# Altium footprint library PcbLib1.PcbLib: 32 footprints (part 1 of 2)
Each footprint in its own frame and in the unit in brackets; x right, y up, seen from the top. Pads: shape width x height; smd on the part's side, far side on the other; paste and mask are expansions set on the pad; w line width, h text height; cw(c..) or ccw(c..) is an arc to the next point about the centre after c.
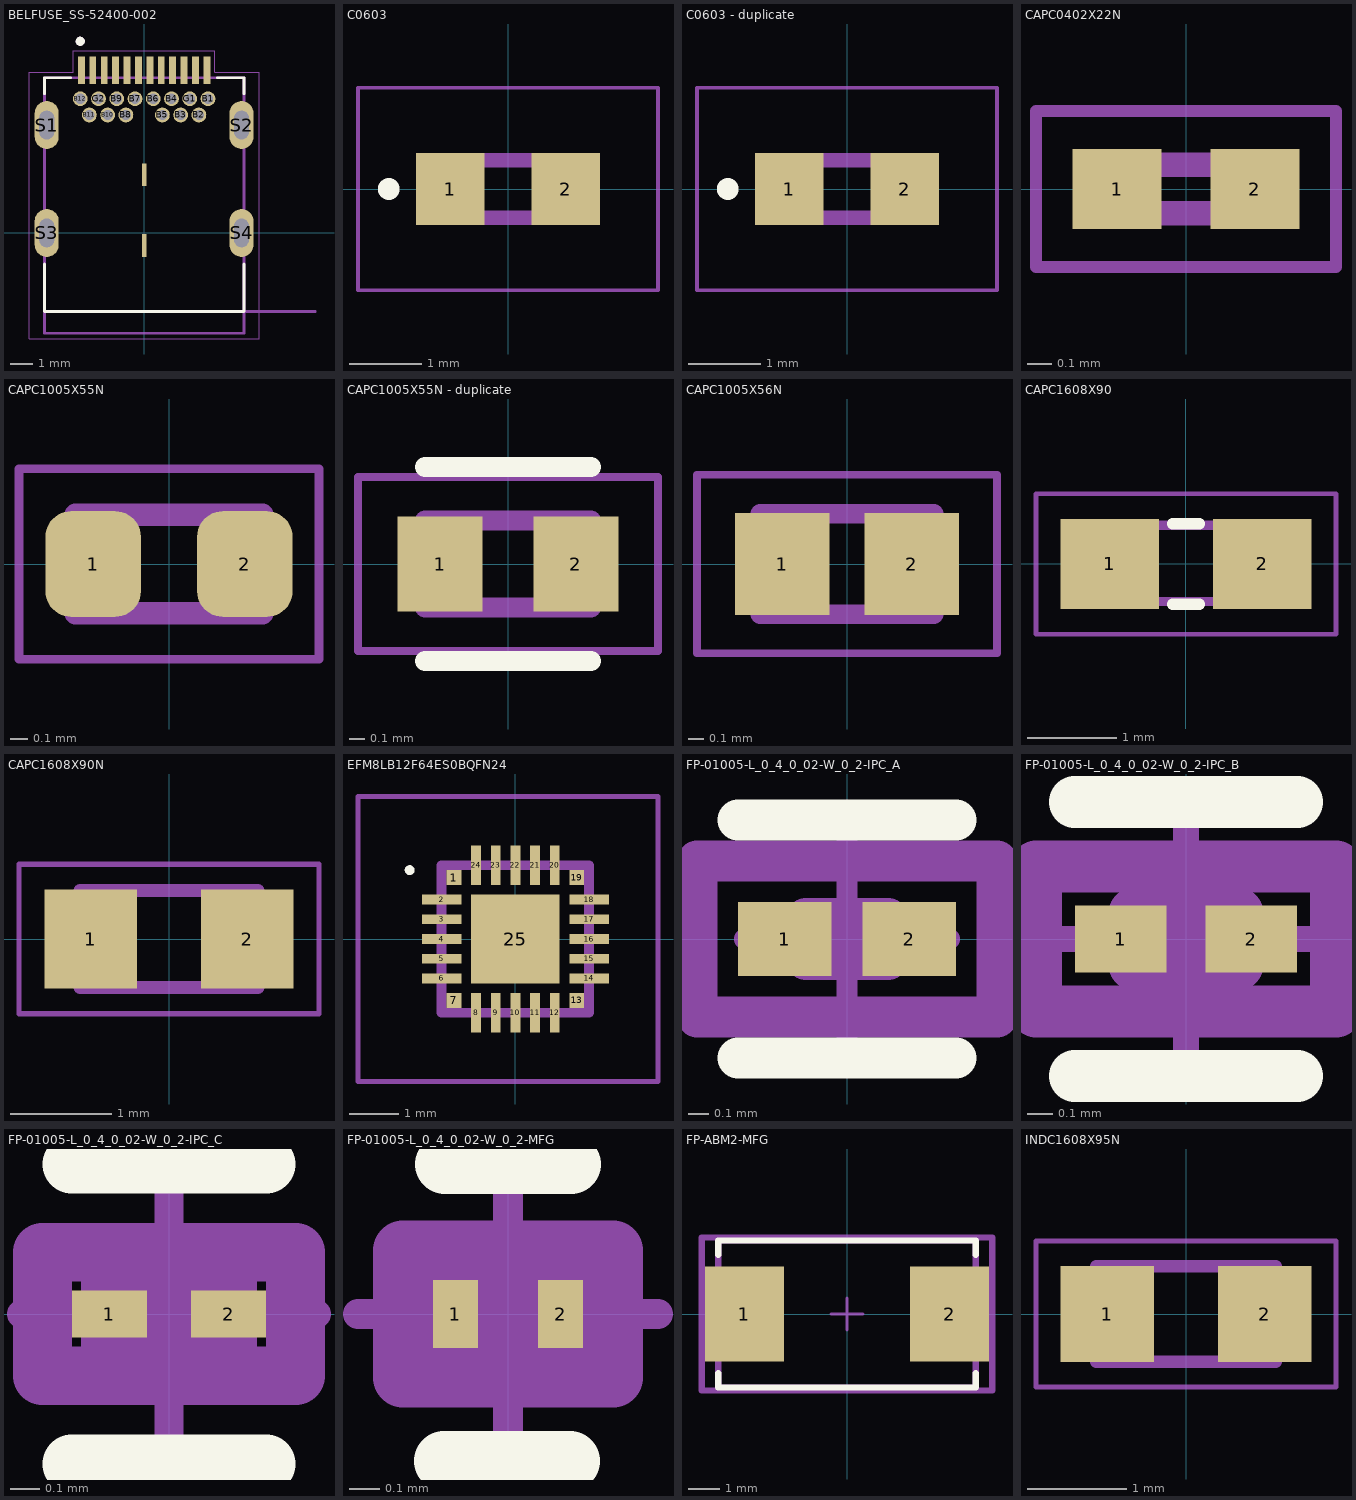
[diagram p0: the footprints below, top view; thin cyan lines are the x and y axes]

## BELFUSE_SS-52400-002 [mm]
pads (32):
  rect 0.3x1.2 smd: A1(-2.75,7.13) A2(-2.25,7.13) A3(-1.75,7.13) A4(-1.25,7.13) A5(-0.75,7.13) A6(-0.25,7.13) A7(0.25,7.13) A8(0.75,7.13) A9(1.25,7.13) A10(1.75,7.13) A11(2.25,7.13) A12(2.75,7.13)
  round 0.65 hole 0.45: B1(2.8,5.88) B2(2.4,5.17) B3(1.6,5.17) B4(1.2,5.88) B5(0.8,5.17) B6(0.4,5.88) B7(-0.4,5.88) B8(-0.8,5.17) B9(-1.2,5.88) B10(-1.6,5.17) B11(-2.4,5.17) B12(-2.8,5.88) G1(2,5.88) G2(-2,5.88)
  rect 0.2x1 smd: G3(0,2.55) G4(0,-0.55)
  oval 1.05x2.1 hole 0.65 slot 1.25 at 90 deg: S1(-4.27,4.73) S2(4.27,4.73) S3(-4.27,0) S4(4.27,0)
Top Overlay:
  circle w0.2: c-2.8,8.4 r0.1
  lines w0.127: -4.37,-1.37 -4.37,-3.45 4.37,-3.45 4.37,-1.37 ; -4.37,6.1 -4.37,6.8 -3.22,6.8 ; 3.22,6.8 4.37,6.8 4.37,6.1
Mechanical 13:
  circle w0.2: c-2.8,8.4 r0.1
  lines w0.127: 7.5,-3.45 -4.37,-3.45 ; -4.37,-3.45 -4.37,6.8 4.37,6.8 4.37,-4.4 -4.37,-4.4 -4.37,-3.45
  text "PCB EDGE" at 5.3,-3.3 h0.3
Mechanical 15:
  lines w0.05: -5.045,-4.65 5.045,-4.65 5.045,7.05 3.1,7.05 3.1,7.98 -3.1,7.98 -3.1,7.05 -5.045,7.05 -5.045,-4.65
3D body "step_temp.STEP": height 2.96, standoff -1.5, extent -4.37,-4.518 4.37,7.312

## C0603 [mm]
pads (2):
  rect 0.95x1 smd: 1(-0.8,0) 2(0.8,0)
Top Overlay:
  circle w0.2: c-1.65,0 r0.05
Mechanical 15:
  lines w0.2: -0.8,-0.4 0.8,-0.4 0.8,0.4 -0.8,0.4 -0.8,-0.4
Mechanical 20:
  lines w0.05: -2.075,-1.4 2.075,-1.4 2.075,1.4 -2.075,1.4 -2.075,-1.4
3D body "C0603C569C5GACTU.stp": height 0.94, standoff -0.01, extent -0.875,-0.425 0.875,0.445

## C0603 - duplicate [mm]
pads (2):
  rect 0.95x1 smd: 1(-0.8,0) 2(0.8,0)
Top Overlay:
  circle w0.2: c-1.65,0 r0.05
Mechanical 15:
  lines w0.2: -0.8,-0.4 -0.8,0.4 0.8,0.4 0.8,-0.4 -0.8,-0.4
Mechanical 20:
  lines w0.05: -2.075,-1.4 -2.075,1.4 2.075,1.4 2.075,-1.4 -2.075,-1.4
3D body "C0603C569C5GACTU.stp": height 0.94, standoff -0.01, extent -0.85,-0.42 0.9,0.45

## CAPC0402X22N [mm]
pads (2):
  rect 0.365x0.33 smd: 1(-0.282,0) 2(0.282,0)
Mechanical 15:
  lines w0.1: -0.2,-0.1 -0.2,0.1 0.2,0.1 0.2,-0.1 -0.2,-0.1
Mechanical 20:
  lines w0.05: -0.615,-0.32 -0.615,0.32 0.615,0.32 0.615,-0.32 -0.615,-0.32
3D body "GRM0225C1C100JA03L.stp": height 0.22, standoff 0, extent -0.2,-0.1 0.2,0.1

## CAPC1005X55N [mm]
pads (2):
  rrect53% 0.54x0.6 smd: 1(-0.43,0) 2(0.43,0)
Mechanical 13:
  lines w0.127: -0.53,-0.28 -0.53,0.28 0.53,0.28 0.53,-0.28 -0.53,-0.28
Mechanical 15:
  lines w0.05: -0.85,-0.54 -0.85,0.54 0.85,0.54 0.85,-0.54 -0.85,-0.54
3D body "IND0402_24N_PUL.step": height 0.61, standoff 0, extent -0.572,-0.355 0.622,0.305

## CAPC1005X55N - duplicate [mm]
pads (2):
  rect 0.54x0.6 smd: 1(-0.43,0) 2(0.43,0)
Top Overlay:
  lines w0.127: -0.525,-0.615 0.525,-0.615 ; -0.525,0.615 0.525,0.615
Mechanical 13:
  lines w0.127: -0.525,-0.275 -0.525,0.275 0.525,0.275 0.525,-0.275 -0.525,-0.275
Mechanical 15:
  lines w0.05: -0.95,-0.55 -0.95,0.55 0.95,0.55 0.95,-0.55 -0.95,-0.55

## CAPC1005X56N [mm]
pads (2):
  rect 0.62x0.67 smd: 1(-0.425,0) 2(0.425,0)
Mechanical 13:
  lines w0.127: -0.57,-0.33 0.57,-0.33 0.57,0.33 -0.57,0.33 -0.57,-0.33
Mechanical 15:
  lines w0.05: -0.985,-0.585 0.985,-0.585 0.985,0.585 -0.985,0.585 -0.985,-0.585
3D body "04026D105KAT2A.STEP": height 0.5, standoff 0, extent -0.5,-0.285 0.5,0.275

## CAPC1608X90 [mm]
pads (2):
  rect 1.1x1 smd: 1(-0.85,0) 2(0.85,0)
Top Overlay:
  lines w0.127: -0.15,-0.45 0.15,-0.45 ; -0.15,0.45 0.15,0.45
Mechanical 13:
  region: -0.338,-0.47 -0.839,-0.47 -0.839,0.48 -0.338,0.48
  region: 0.83,-0.471 0.331,-0.471 0.331,0.48 0.83,0.48
  lines w0.102: -0.356,-0.419 0.356,-0.419 ; -0.356,0.432 0.356,0.432
Mechanical 15:
  lines w0.051: -1.673,-0.783 1.673,-0.783 1.673,0.783 -1.673,0.783 -1.673,-0.783
3D body "C0603C682K5RACTU.STEP": height 0.81, standoff 0.01, extent -0.8,-0.438 0.8,0.432

## CAPC1608X90N [mm]
pads (2):
  rect 0.92x0.98 smd: 1(-0.775,0) 2(0.775,0)
Mechanical 13:
  lines w0.127: -0.88,-0.48 0.88,-0.48 0.88,0.48 -0.88,0.48 -0.88,-0.48
Mechanical 15:
  lines w0.05: -1.485,-0.74 1.485,-0.74 1.485,0.74 -1.485,0.74 -1.485,-0.74
3D body "step_temp.STEP": height 0.9, standoff 0, extent -0.8,-0.405 0.8,0.405

## EFM8LB12F64ES0BQFN24 [mm]
pads (25):
  rect 0.3x0.3 smd: 1(-1.25,1.25) 7(-1.25,-1.25) 13(1.25,-1.25) 19(1.25,1.25)
  rect 0.8x0.2 smd: 2(-1.5,0.8) 3(-1.5,0.4) 4(-1.5,0) 5(-1.5,-0.4) 6(-1.5,-0.8) 14(1.5,-0.8) 15(1.5,-0.4) 16(1.5,0) 17(1.5,0.4) 18(1.5,0.8)
  rect 0.2x0.8 smd: 8(-0.8,-1.5) 9(-0.4,-1.5) 10(0,-1.5) 11(0.4,-1.5) 12(0.8,-1.5) 20(0.8,1.5) 21(0.4,1.5) 22(0,1.5) 23(-0.4,1.5) 24(-0.8,1.5)
  rect 1.8x1.8 smd: 25(0,0)
Top Overlay:
  lines w0.1: -2.2,1.4 ccw(c-2.15,1.4) -2.1,1.4 ; -2.2,1.4 cw(c-2.15,1.4) -2.1,1.4 ; -2.2,1.4 ccw(c-2.15,1.4) -2.1,1.4
Mechanical 15:
  lines w0.2: -1.5,-1.5 1.5,-1.5 1.5,1.5 -1.5,1.5 -1.5,-1.5
Mechanical 20:
  lines w0.1: -3.2,-2.9 2.9,-2.9 2.9,2.9 -3.2,2.9 -3.2,-2.9
3D body "EFM8LB12F64E-C-QFN24.stp": height 1, standoff 0, extent -1.5,-1.5 1.5,1.5

## FP-01005-L_0_4_0_02-W_0_2-IPC_A [mm]
pads (2):
  rect 0.456x0.361 smd paste+0 mask+0: 1(-0.303,0) 2(0.303,0)
Top Overlay:
  lines w0.2: -0.531,-0.581 0.531,-0.581 ; -0.531,0.581 0.531,0.581
Top 3D Body:
  lines w0.2: -0.2,-0.1 0.2,-0.1 0.2,0.1 -0.2,0.1 -0.2,-0.1
Top Courtyard:
  lines w0.2: -0.731,-0.381 0.731,-0.381 0.731,0.381 -0.731,0.381 -0.731,-0.381
Top Assembly:
  lines w0.2: -0.731,-0.381 0.731,-0.381 0.731,0.381 -0.731,0.381 -0.731,-0.381
  text ".Designator" at 0,0.188 h1
Top Component Center:
  lines w0.1: -0.5,0 0.5,0 ; 0,-0.5 0,0.5
3D body "Cap_Taiyo_Yuden_LMK042BJ222MC-W_eec.STEP": height 0.25, standoff 0, extent -0.731,-0.381 0.731,0.381

## FP-01005-L_0_4_0_02-W_0_2-IPC_B [mil]
pads (2):
  rect 14x10.29 smd paste+0 mask+0: 1(-9.95,0) 2(9.95,0)
Top Overlay:
  lines w7.87: -16.95,-20.89 16.95,-20.89 ; -16.95,20.89 16.95,20.89
Top 3D Body:
  lines w7.87: -7.87,-3.94 -7.87,3.94 7.87,3.94 7.87,-3.94 -7.87,-3.94
Top Courtyard:
  lines w7.87: -22.86,-11.05 -22.86,11.05 22.86,11.05 22.86,-11.05 -22.86,-11.05
Top Assembly:
  lines w7.87: -22.86,-11.05 -22.86,11.05 22.86,11.05 22.86,-11.05 -22.86,-11.05
  text ".Designator" at 0,7.41 h39.37
Top Component Center:
  lines w3.94: -19.68,0 19.68,0 ; 0,-19.68 0,19.68
3D body "Cap_Taiyo_Yuden_LMK042BJ222MC-W_eec.STEP": height 10, standoff 0, extent -22.86,-11.05 22.86,11.05

## FP-01005-L_0_4_0_02-W_0_2-IPC_C [mm]
pads (2):
  rect 0.256x0.161 smd paste+0 mask+0: 1(-0.203,0) 2(0.203,0)
Top Overlay:
  lines w0.2: -0.331,-0.51 0.331,-0.51 ; -0.331,0.51 0.331,0.51
Top 3D Body:
  lines w0.2: -0.2,-0.1 0.2,-0.1 0.2,0.1 -0.2,0.1 -0.2,-0.1
Top Courtyard:
  lines w0.2: -0.431,-0.21 0.431,-0.21 0.431,0.21 -0.431,0.21 -0.431,-0.21
Top Assembly:
  lines w0.2: -0.431,-0.21 0.431,-0.21 0.431,0.21 -0.431,0.21 -0.431,-0.21
  text ".Designator" at 0,0.188 h1
Top Component Center:
  lines w0.1: -0.5,0 0.5,0 ; 0,-0.5 0,0.5
3D body "Cap_Taiyo_Yuden_LMK042BJ222MC-W_eec.STEP": height 0.25, standoff 0, extent -0.431,-0.21 0.431,0.21

## FP-01005-L_0_4_0_02-W_0_2-MFG [mm]
pads (2):
  rect 0.15x0.225 smd paste+0 mask+0: 1(-0.175,0) 2(0.175,0)
Top Overlay:
  lines w0.2: -0.214,-0.49 0.206,-0.49 ; -0.21,0.5 0.21,0.5
Top 3D Body:
  lines w0.2: -0.21,-0.11 0.21,-0.11 0.21,0.11 -0.21,0.11 -0.21,-0.11
Top Courtyard:
  lines w0.2: -0.35,-0.212 0.35,-0.212 0.35,0.212 -0.35,0.212 -0.35,-0.212
Top Assembly:
  lines w0.2: -0.35,-0.212 0.35,-0.212 0.35,0.212 -0.35,0.212 -0.35,-0.212
  text ".Designator" at 0,0.188 h1
Top Component Center:
  lines w0.1: -0.5,0 0.5,0 ; 0,-0.5 0,0.5
3D body "Cap_Taiyo_Yuden_LMK042BJ222MC-W_eec.STEP": height 0.25, standoff 0, extent -0.35,-0.212 0.35,0.212

## FP-ABM2-MFG [mm]
pads (2):
  rect 2.5x3 smd paste+0 mask+0: 1(-3.25,0) 2(3.25,0)
Top Overlay:
  lines w0.2: -4.075,-1.875 -4.075,-2.325 4.075,-2.325 4.075,-1.875 ; -4.075,1.875 -4.075,2.325 4.075,2.325 4.075,1.875
Top 3D Body:
  lines w0.2: -4.075,-2.325 -4.075,2.325 4.075,2.325 4.075,-2.325 -4.075,-2.325
Top Courtyard:
  lines w0.2: -4.6,-2.425 -4.6,2.425 4.6,2.425 4.6,-2.425 -4.6,-2.425
Top Assembly:
  lines w0.2: -4.6,-2.425 -4.6,2.425 4.6,2.425 4.6,-2.425 -4.6,-2.425
  text ".Designator" at 0,0.188 h1
Top Component Center:
  lines w0.1: -0.5,0 0.5,0 ; 0,-0.5 0,0.5
3D body "Crys_Abracon_ABM2-30_000MHZ-D4YF-T_eec.STEP": height 0.25, standoff 0, extent -4.6,-2.425 4.6,2.425

## INDC1608X95N [mm]
pads (2):
  rect 0.94x0.97 smd: 1(-0.79,0) 2(0.79,0)
Mechanical 13:
  lines w0.127: -0.9,-0.48 -0.9,0.48 0.9,0.48 0.9,-0.48 -0.9,-0.48
Mechanical 15:
  lines w0.05: -1.508,-0.735 -1.508,0.735 1.508,0.735 1.508,-0.735 -1.508,-0.735
3D body "step_temp.STEP": height 0.78, standoff -0.02, extent -0.8,-0.4 0.8,0.4